# EAGLE library part TSL2561 (library SparkFun-Sensors)
TAOS TSL2561 Digital Luminosity (Light) Sensor The TSL2561 is a light-to-digital converter that transform light intensity to a digital signal output via I2C interface. The device combines one broadband photodiode (visible plus infrared) and one infrared-responding photodiode on a single CMOS integrated circuit capable of providing a near-photopic response over an effective 20-bit dynamic range (16-bit resolution). Two integrating ADCs convert the photodiode currents to a digital output that represents the irradiance measured on each channel. This digital output can be input to a microprocessor where illuminance (ambient light level) in lux is derived using an empirical formula to approximate the human eye response. The TSL2561 device supports a traditional level style interrupt that remains asserted until the firmware clears it. Datasheet <http://www.mouser.com/ds/2/588/ams_sl2560-e58-488842.pdf> SparkFun Products SparkFun Luminosity Sensor Breakout - TSL2561 <https://www.sparkfun.com/products/12055> (SEN-12055)
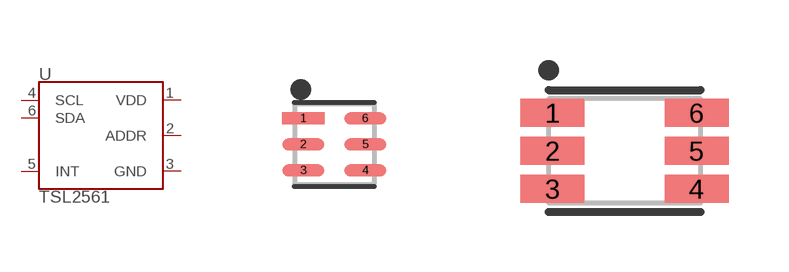
[diagram p24: symbol with the pads of DFN-6-2X2; footprints DFN-6-2X2, TMB-6]

Designator prefix U

## TSL2561FN (PROD_ID: IC-11791)  [DFN-6-2X2]
1  VDD  pwr
2  ADDR  in
3  GND  pwr
4  SCL  in
5  INT  out
6  SDA

## TSL2561T  [TMB-6]
Pads as for DFN-6-2X2

## Footprint DFN-6-2X2 (pad centres in mm)
6-Pin Dual-Flat No-Lead (DFN) (2.0 x 2.0 mm) Datasheet <http://www.mouser.com/ds/2/588/ams_sl2560-e58-488842.pdf> Specifications: Pin Count: 6 Dimensions: 2.0 x 2.0 x 0.65 mm Pitch: 0.65 mm Devices Using: TSL2561
smd 1.05 x 0.3: 1 -0.775,0.65; 2 -0.775,0; 3 -0.775,-0.65; 4 0.775,-0.65; 5 0.775,0; 6 0.775,0.65

## Footprint TMB-6 (pad centres in mm)
6-Pin TMB Datasheet <http://www.mouser.com/ds/2/588/ams_sl2560-e58-488842.pdf> Specifications: Pin Count: 6 Area: 3.8 x 2.6 x 1.35 mm Pitch: 0.9 mm Devices Using: TSL2561
smd 1.6 x 0.7: 1 -1.8,0.95; 2 -1.8,0; 3 -1.8,-0.95; 4 1.8,-0.95; 5 1.8,0; 6 1.8,0.95